# Altium footprint library 2220Y1K00474KETWS2.PcbLib: 3 footprints
Each footprint in its own frame and in the unit in brackets; x right, y up, seen from the top. Pads: shape width x height; smd on the part's side, far side on the other; paste and mask are expansions set on the pad; w line width, h text height; cw(c..) or ccw(c..) is an arc to the next point about the centre after c.
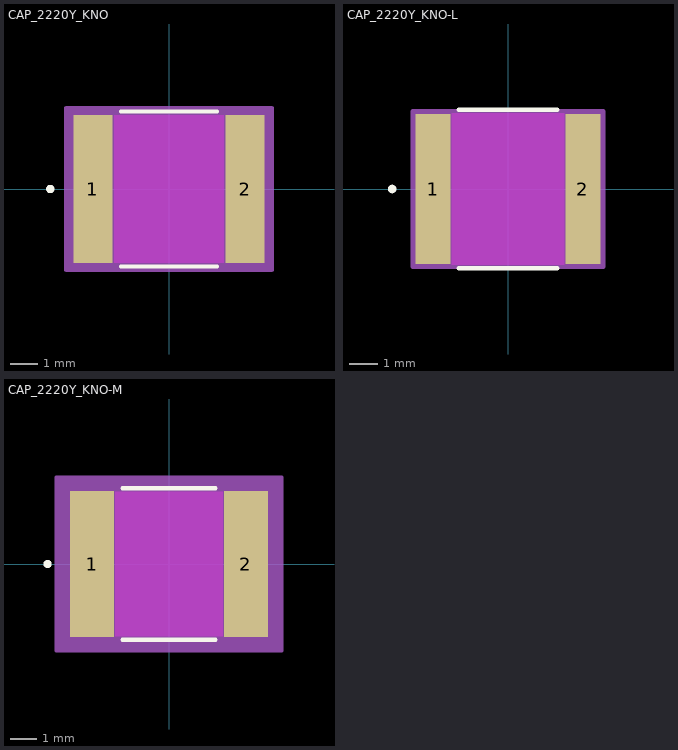
[diagram p0: the footprints below, top view; thin cyan lines are the x and y axes]

## CAP_2220Y_KNO [mil]
pads (2):
  rect 56.78x213 smd paste+0 mask+0: 1(-109.39,0) 2(109.39,0)
Top Layer keep-out:
  region: -79,-104.5 -79,104.5 79,104.5 79,-104.5
Top Overlay:
  circle w6: c-170.78,0 r3
  lines w6: -68.89,-111.5 68.89,-111.5 ; -68.89,111.5 68.89,111.5
  text ".Designator" at -137.5,-25 h50
Keep-Out Layer:
  region: -79,-106.5 -79,106.5 79,106.5 79,-106.5
Mechanical 13:
  circle w1: c-104.39,0 r3
  lines w1: -124,-106.5 -124,106.5 ; -124,-106.5 -81,-106.5 -81,106.5 -124,106.5 ; -124,-106.5 124,-106.5 ; -124,-106.5 -124,106.5 ; -124,106.5 124,106.5 ; 124,-106.5 81,-106.5 81,106.5 124,106.5 ; 124,-106.5 124,106.5 ; 124,-106.5 124,106.5
  text ".Designator" at -137.5,-25 h50
Mechanical 15:
  region: 147.78,-116.5 -147.78,-116.5 -147.78,116.5 147.78,116.5
  lines w6: -147.78,-116.5 -147.78,116.5 147.78,116.5 147.78,-116.5 -147.78,-116.5
3D body "CAP_2220Y_KNO.step": height 177.01, standoff 0, extent -124.02,-106.5 124.02,106.5

## CAP_2220Y_KNO-L [mil]
pads (2):
  rect 48.91x211.03 smd paste+0 mask+0: 1(-105.45,0) 2(105.45,0)
Top Layer keep-out:
  region: -79,-104.5 -79,104.5 79,104.5 79,-104.5
Top Overlay:
  circle w6: c-162.91,0 r3
  lines w6: -69.35,-111.5 69.35,-111.5 ; -69.35,111.5 69.35,111.5
  text ".Designator" at -137.5,-25 h50
Keep-Out Layer:
  region: -79,-106.5 -79,106.5 79,106.5 79,-106.5
Mechanical 13:
  circle w1: c-100.45,0 r3
  lines w1: -124,-106.5 -124,106.5 ; -124,-106.5 -81,-106.5 -81,106.5 -124,106.5 ; -124,-106.5 124,-106.5 ; -124,-106.5 -124,106.5 ; -124,106.5 124,106.5 ; 124,-106.5 81,-106.5 81,106.5 124,106.5 ; 124,-106.5 124,106.5 ; 124,-106.5 124,106.5
  text ".Designator" at -137.5,-25 h50
Mechanical 15:
  region: 133.91,-109.52 -133.91,-109.52 -133.91,109.52 133.91,109.52
  lines w6: -133.91,-109.52 -133.91,109.52 133.91,109.52 133.91,-109.52 -133.91,-109.52
3D body "CAP_2220Y_KNO.step": height 177.01, standoff 0, extent -124.02,-106.5 124.02,106.5

## CAP_2220Y_KNO-M [mil]
pads (2):
  rect 64.65x214.97 smd paste+0 mask+0: 1(-113.33,0) 2(113.33,0)
Top Layer keep-out:
  region: -79,-104.5 -79,104.5 79,104.5 79,-104.5
Top Overlay:
  circle w6: c-178.65,0 r3
  lines w6: -68.53,-111.5 68.53,-111.5 ; -68.53,111.5 68.53,111.5
  text ".Designator" at -137.5,-25 h50
Keep-Out Layer:
  region: -79,-106.5 -79,106.5 79,106.5 79,-106.5
Mechanical 13:
  circle w1: c-108.33,0 r3
  lines w1: -124,-106.5 -124,106.5 ; -124,-106.5 -81,-106.5 -81,106.5 -124,106.5 ; -124,-106.5 124,-106.5 ; -124,-106.5 -124,106.5 ; -124,106.5 124,106.5 ; 124,-106.5 81,-106.5 81,106.5 124,106.5 ; 124,-106.5 124,106.5 ; 124,-106.5 124,106.5
  text ".Designator" at -137.5,-25 h50
Mechanical 15:
  region: 165.65,-127.48 -165.65,-127.48 -165.65,127.48 165.65,127.48
  lines w6: -165.65,-127.48 -165.65,127.48 165.65,127.48 165.65,-127.48 -165.65,-127.48
3D body "CAP_2220Y_KNO.step": height 177.01, standoff 0, extent -124.02,-106.5 124.02,106.5